# Altium footprint library ti.PcbLib: 5 footprints
Each footprint in its own frame and in the unit in brackets; x right, y up, seen from the top. Pads: shape width x height; smd on the part's side, far side on the other; paste and mask are expansions set on the pad; w line width, h text height; cw(c..) or ccw(c..) is an arc to the next point about the centre after c.
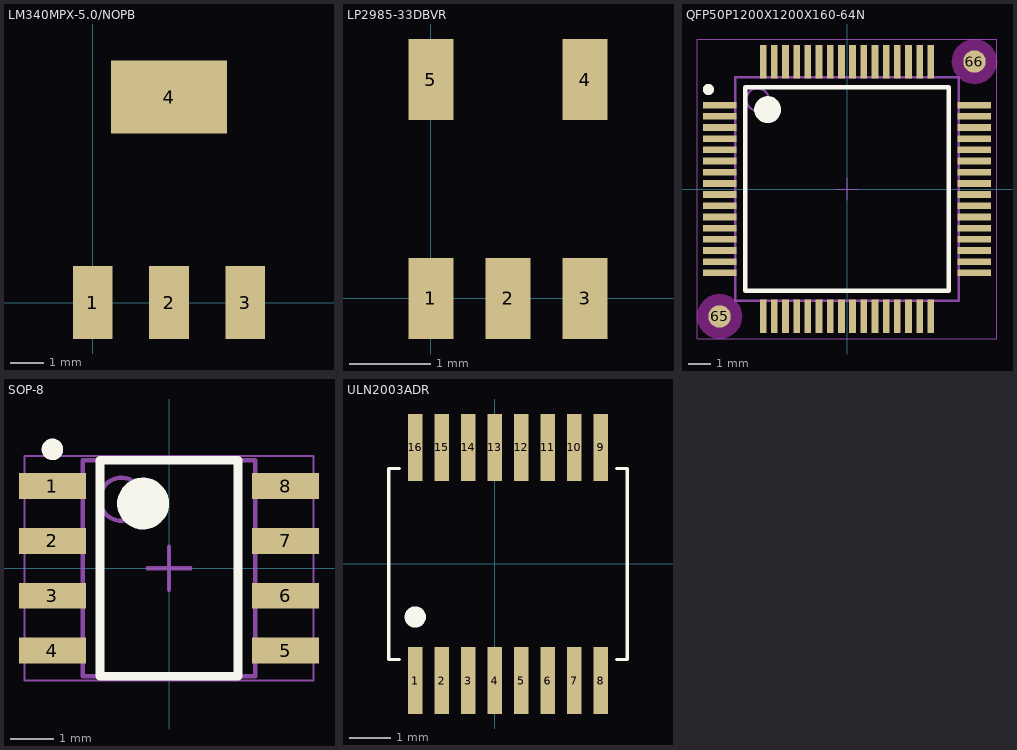
[diagram p0: the footprints below, top view; thin cyan lines are the x and y axes]

## LM340MPX-5.0/NOPB [mm] "JEDEC TO-261 Variation AA"
pads (4):
  rect 1.2x2.2 smd: 1(0,0) 2(2.3,0) 3(4.6,0)
  rect 3.5x2.2 smd: 4(2.3,6.2)
3D body: height 1.64, standoff -0.01, extent -0.964,-0.071 5.536,6.929

## LP2985-33DBVR [mm] "Linear Regulator 3.3V"
pads (5):
  rect 0.55x1 smd: 1(0,0) 2(0.95,0) 3(1.9,0) 4(1.9,2.7) 5(0,2.7)

## QFP50P1200X1200X160-64N [mm]
pads (66):
  rect 1.5x0.3 smd: 1(-5.7,3.75) 2(-5.7,3.25) 3(-5.7,2.75) 4(-5.7,2.25) 5(-5.7,1.75) 6(-5.7,1.25) 7(-5.7,0.75) 8(-5.7,0.25) 9(-5.7,-0.25) 10(-5.7,-0.75) 11(-5.7,-1.25) 12(-5.7,-1.75) 13(-5.7,-2.25) 14(-5.7,-2.75) 15(-5.7,-3.25) 16(-5.7,-3.75) 33(5.7,-3.75) 34(5.7,-3.25) 35(5.7,-2.75) 36(5.7,-2.25) 37(5.7,-1.75) 38(5.7,-1.25) 39(5.7,-0.75) 40(5.7,-0.25) 41(5.7,0.25) 42(5.7,0.75) 43(5.7,1.25) 44(5.7,1.75) 45(5.7,2.25) 46(5.7,2.75) 47(5.7,3.25) 48(5.7,3.75)
  rect 0.3x1.5 smd: 17(-3.75,-5.7) 18(-3.25,-5.7) 19(-2.75,-5.7) 20(-2.25,-5.7) 21(-1.75,-5.7) 22(-1.25,-5.7) 23(-0.75,-5.7) 24(-0.25,-5.7) 25(0.25,-5.7) 26(0.75,-5.7) 27(1.25,-5.7) 28(1.75,-5.7) 29(2.25,-5.7) 30(2.75,-5.7) 31(3.25,-5.7) 32(3.75,-5.7) 49(3.75,5.7) 50(3.25,5.7) 51(2.75,5.7) 52(2.25,5.7) 53(1.75,5.7) 54(1.25,5.7) 55(0.75,5.7) 56(0.25,5.7) 57(-0.25,5.7) 58(-0.75,5.7) 59(-1.25,5.7) 60(-1.75,5.7) 61(-2.25,5.7) 62(-2.75,5.7) 63(-3.25,5.7) 64(-3.75,5.7)
  round 1 smd mask+0.5: 65(-5.7,-5.7) 66(5.7,5.7)
Top Layer keep-out:
  region: 6.709,5.7 6.674,5.961 6.573,6.204 6.413,6.413 6.204,6.573 5.961,6.674 5.7,6.709 5.439,6.674 5.196,6.573 4.987,6.413 4.827,6.204 4.726,5.961 4.691,5.7 4.726,5.439 4.827,5.196 4.987,4.987 5.196,4.827 5.439,4.726 5.7,4.691 5.961,4.726 6.204,4.827 6.413,4.987 6.573,5.196 6.674,5.439
  region: -4.691,-5.7 -4.726,-5.439 -4.827,-5.196 -4.987,-4.987 -5.196,-4.827 -5.439,-4.726 -5.7,-4.691 -5.961,-4.726 -6.204,-4.827 -6.413,-4.987 -6.573,-5.196 -6.674,-5.439 -6.709,-5.7 -6.674,-5.961 -6.573,-6.204 -6.413,-6.413 -6.204,-6.573 -5.961,-6.674 -5.7,-6.709 -5.439,-6.674 -5.196,-6.573 -4.987,-6.413 -4.827,-6.204 -4.726,-5.961
Top Overlay:
  circle w0.25: c-6.2,4.45 r0.125
  circle w0.6: c-3.55,3.55 r0.3
  lines w0.2: -4.55,-4.55 -4.55,4.55 4.55,4.55 4.55,-4.55 -4.55,-4.55
Mechanical 15:
  circle w0.1: c-4,4 r0.5
  lines w0.1: -5,-5 -5,5 5,5 5,-5 -5,-5
Mechanical 20:
  lines w0.05: -0.5,0 0.5,0 ; 0,-0.5 0,0.5 ; -6.7,-6.7 -6.7,6.7 6.7,6.7 6.7,-6.7 -6.7,-6.7
Mechanical 21:
  lines w0.001: -5,-5 -5,5 5,5 5,-5 -5,-5
3D body: height 1.62, standoff -0.01, extent -6.072,-6.071 6.072,6.072

## SOP-8 [mm] "SOP, 8-Leads, Body 4.90x3.90mm, Pitch 1.27mm, IPC High Density"
height 1.75
pads (8):
  rect 1.55x0.6 smd: 1(-2.7,1.905) 2(-2.7,0.635) 3(-2.7,-0.635) 4(-2.7,-1.905) 5(2.7,-1.905) 6(2.7,-0.635) 7(2.7,0.635) 8(2.7,1.905)
Top Overlay:
  circle w0.6: c-0.6,1.5 r0.3
  circle w0.25: c-2.7,2.755 r0.125
  lines w0.2: -1.6,-2.5 1.6,-2.5 1.6,2.5 -1.6,2.5 -1.6,-2.5
Mechanical 13:
  circle w0.1: c-1.1,1.6 r0.5
  lines w0.1: -2,-2.5 2,-2.5 2,2.5 -2,2.5 -2,-2.5
Mechanical 15:
  lines w0.05: -3.35,-2.6 3.35,-2.6 3.35,2.6 -3.35,2.6 -3.35,-2.6
  lines w0.1: -0.5,0 0.5,0 ; 0,-0.5 0,0.5
3D body: height 1.75, standoff 0.25, extent -2,-2.5 2,2.5

## ULN2003ADR [mm] "Plastic Small Outline, 16 Pin"
height 1.2
pads (16):
  rect 0.35x1.6 smd mask+0.07: 1(-1.905,-2.794) 2(-1.27,-2.794) 3(-0.635,-2.794) 4(0,-2.794) 5(0.635,-2.794) 6(1.27,-2.794) 7(1.905,-2.794) 8(2.54,-2.794) 9(2.54,2.794) 10(1.905,2.794) 11(1.27,2.794) 12(0.635,2.794) 13(0,2.794) 14(-0.635,2.794) 15(-1.27,2.794) 16(-1.905,2.794)
Top Overlay:
  circle w0.254: c-1.905,-1.27 r0.127
  lines w0.076: -2.286,-2.286 -2.54,-2.286 -2.54,2.286 -2.286,2.286 ; 2.921,-2.286 3.175,-2.286 3.175,2.286 2.921,2.286